# Altium schematic symbol library TRANS_NMOS_IRLZ14_1.Schlib: 1 symbol
Pins are listed as number, name and electrical type; pins without a type are passive.

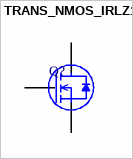
[diagram p0: symbol TRANS_NMOS_IRLZ14]

## TRANS_NMOS_IRLZ14
designator Q?
MOSFET N-CH 60V 10A TO-220AB; Manufacturer: Vishay Siliconix
footprint TO220-GDS
pins: 1 G, 2 D, 3 S
2 alternate drawings of the same symbol